# EAGLE library part MICROMATCH_AMP-188275-6 (library gost_con_other)
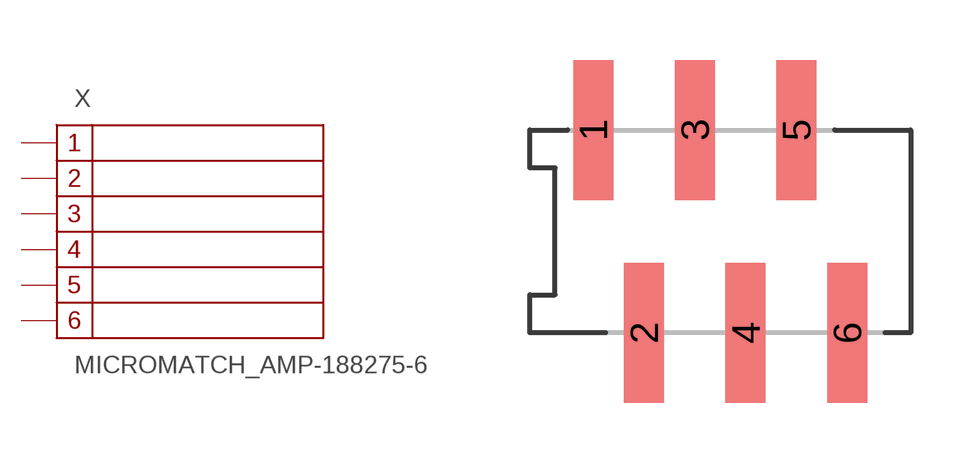
[diagram p5: symbol with the pads of MICROMATCH_AMP-188275-6; footprint MICROMATCH_AMP-188275-6]

Designator prefix X

## MICROMATCH_AMP-188275-6  [MICROMATCH_AMP-188275-6]
1  1
2  2
3  3
4  4
5  5
6  6

## Footprint MICROMATCH_AMP-188275-6 (pad centres in mm)
smd 1 x 3.5: 1 0,2.54; 2 1.27,-2.54; 3 2.54,2.54; 4 3.81,-2.54; 5 5.08,2.54; 6 6.35,-2.54